# EAGLE library part 65100516121 (library 632723100011_Eagle_WR-USB_rev19b)
WR-COM SMT Horizontal 5 Contacts Mini USB Typ B=>Code : Con_I-O_COM_MiniUSB_65100516121 <http://katalog.we-online.de/media/images/eican/Con_I-O_COM_MiniUSB_65100516121_pf2.jpg> Details see: http://katalog.we-online.de/en/em/COM_SMT_MINI_TYPE_B_HORIZONTAL/65100516121 Created 2014-07-09, Karrer Zheng 2014 (C) Würth Elektronik
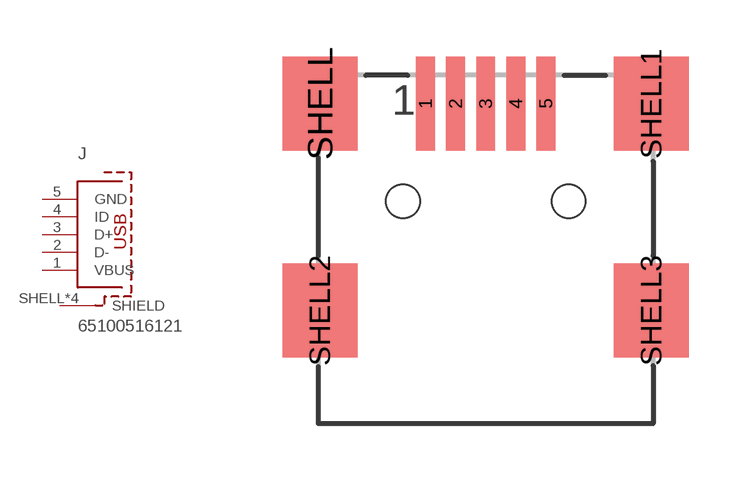
[diagram p69: symbol with the pads of 65100516121; footprint 65100516121]

Designator prefix J

## 65100516121  [65100516121]
1  VBUS  pas
2  D-  pas
3  D+  pas
4  ID  pas
5  GND  pas
SHELL  SHIELD  pas
SHELL1  SHIELD  pas
SHELL2  SHIELD  pas
SHELL3  SHIELD  pas

## Footprint 65100516121 (pad centres in mm)
WR-COM SMT Horizontal 5 Contacts Mini USB Typ B
smd 0.5 x 2.5: 1 -1.6,2.6; 2 -0.8,2.6; 3 0,2.6; 4 0.8,2.6; 5 1.6,2.6
smd 2 x 2.5: SHELL -4.4,2.6; SHELL1 4.4,2.6; SHELL2 -4.4,-2.9; SHELL3 4.4,-2.9
hole 0.9 at -2.2,0
hole 0.9 at 2.2,0